# Altium integrated library Workshop_Library.IntLib: 31 symbols
Pins are listed as number, name and electrical type; pins without a type are passive.

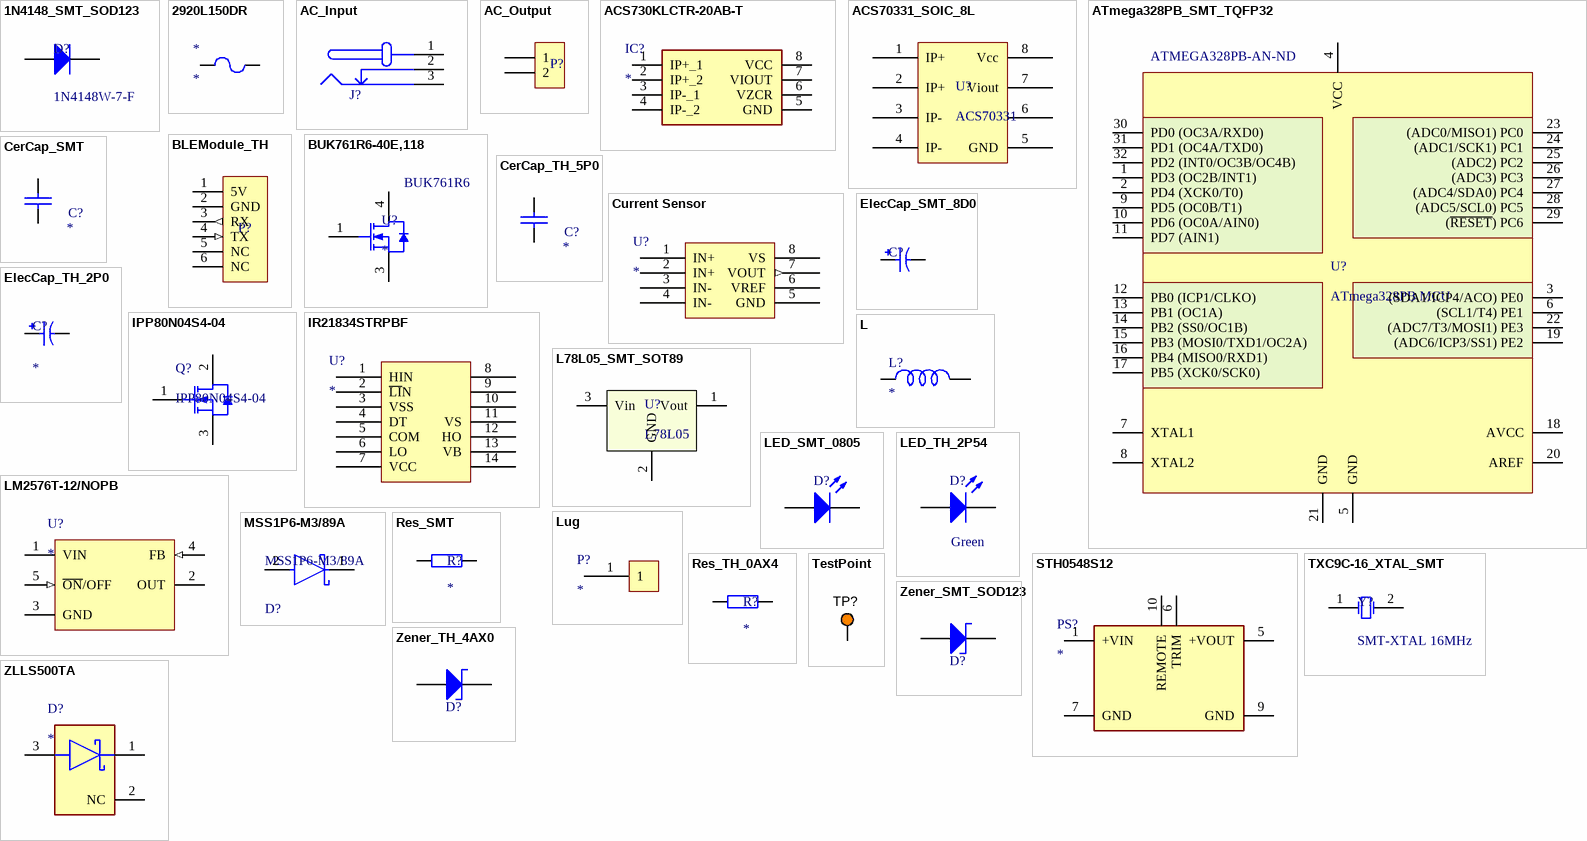
[diagram p0: symbols 1N4148_SMT_SOD123 to ZLLS500TA]

## 1N4148_SMT_SOD123
designator D?, comment 1N4148W-7-F
DIODE GEN PURP 100V 300MA SOD123; Manufacturer: Diodes Incorporated; Manufacturer Part Number: 1N4148W-13-F; Diode Type: Standard; Current - Average Rectified (Io): 150mA; Speed: Small Signal =< 200mA (Io), Any Speed; Capacitance @ Vr, F: 2pF @ 0V, 1MHz; Supplier 1: Digi-Key; RoHS: RoHS Compliant; Category: Discrete Semiconductor Products; Stock 1: 5282; Pricing 1: 1=0.33, 10=0.292, 100=0.1586, 500=0.0976, 1000=0.06656 (NZD); Packaging: Cut Tape (CT); Part Status: Active; Mounting Type: Surface Mount; Package / Case: SOD-123; Supplier Device Package: SOD-123; Operating Temperature - Junction: -65°C ~ 150°C; Base Part Number: 1N4148W; ComponentLink1URL: https://www.diodes.com/assets/Datasheets/ds30086.pdf; ComponentLink1Description: https://www.diodes.com/assets/Datasheets/ds30086.pdf; Supplier Part Number 1: 1N4148W-13FDICT-ND
footprint SOD123 (SOD-123; 2 Leads; Body 2.7 x 1.6 mm, (LxW))
pins: 1 A, 2 K

## 2920L150DR
designator *
PTC Resettable Fuse 1.5A(hold) 3A(trip) 33VDC 40A 1.5W 2s 0.08Ohm SMD Solder Pad 2920 T/R; Manufacturer: Littelfuse; Manufacturer Part Number: 2920L150DR; Operating Supply Voltage: 33V; Resistance: 230mR; Approvals: cULus,TUV; Supplier 1: Digi-Key; RoHS: Yes; Category: PTC Resettable Fuses; Stock 1: 8939; Pricing 1: 1=0.66000, 5=0.64400, 10=0.62400, 50=0.52520, 100=0.43600, 250=0.39640, 500=0.33694 (USD); Case/Package: 2920; Case Code (Metric): 7351; Case Code (Imperial): 2920; Terminal Material: Copper; Min Operating Temperature: -40°C; Max Operating Temperature: 85°C; Package Quantity: 1500; Packaging: Tape and Reel; Max Current Rating: 40A; Voltage Rating: 33V; Current Rating: 40A; Termination: SMD/SMT; Power Dissipation: 1.5W; Working Voltage: 33V; Voltage Rating (DC): 33V; Hold Current: 1.5A; Trip Current: 3A; Time to Trip: 2s; Series: 2920L; Length: 7.98mm; Width: 5.44mm; Height: 1.25mm; REACH SVHC: No SVHC; Lead Free: Lead Free; RoHS Compliant: Yes; ComponentLink1URL: https://datasheet.ciiva.com/30470/0900766b8128f916-30470046.pdf?src-supplier=RSComponents; ComponentLink1Description: https://datasheet.ciiva.com/30470/0900766b8128f916-30470046.pdf?src-supplier=RSComponents; ComponentLink2URL: https://datasheet.ciiva.com/14119/2920l-eng-datasheet-14119786.pdf?src-supplier=Distrelec; ComponentLink2Description: https://datasheet.ciiva.com/14119/2920l-eng-datasheet-14119786.pdf?src-supplier=Distrelec; ComponentLink3URL: https://datasheet.ciiva.com/325/littelfuse-ptc-2920l-325940.pdf?src-supplier=Digi-Key; ComponentLink3Description: https://datasheet.ciiva.com/325/littelfuse-ptc-2920l-325940.pdf?src-supplier=Digi-Key; ComponentLink4URL: https://datasheet.ciiva.com/325/littelfuse-ptc-2920l-325941.pdf?src-supplier=Digi-Key; ComponentLink4Description: https://datasheet.ciiva.com/325/littelfuse-ptc-2920l-325941.pdf?src-supplier=Digi-Key; ComponentLink5URL: https://datasheet.ciiva.com/325/littelfuse-ptc-2920l-325942.pdf?src-supplier=Digi-Key; ComponentLink5Description: https://datasheet.ciiva.com/325/littelfuse-ptc-2920l-325942.pdf?src-supplier=Digi-Key; ComponentLink6URL: https://datasheet.ciiva.com/1273/578244-1273819.pdf?src-supplier=Element14; ComponentLink6Description: https://datasheet.ciiva.com/1273/578244-1273819.pdf?src-supplier=Element14; ComponentLink7URL: https://datasheet.ciiva.com/16305/littelfuse-ptc-2920l-16305114.pdf?src-supplier=Future+Electronics; ComponentLink7Description: https://datasheet.ciiva.com/16305/littelfuse-ptc-2920l-16305114.pdf?src-supplier=Future+Electronics; ComponentLink8URL: https://datasheet.ciiva.com/15226/getdatasheetpartid-158319-15226903.pdf?src-supplier=Verical; ComponentLink8Description: https://datasheet.ciiva.com/15226/getdatasheetpartid-158319-15226903.pdf?src-supplier=Verical; ComponentLink9URL: https://datasheet.ciiva.com/28410/699682-28410950.pdf?src-supplier=Element14; ComponentLink9Description: https://datasheet.ciiva.com/28410/699682-28410950.pdf?src-supplier=Element14
footprint LFUS-2920L150DR_V (SMD, 2-Leads, Body 5.12x7.355mm)
pins: 1, 2

## AC_Input
designator J?, comment DC barrel jack  (value not drawn)
DC barrel jack connection to AC source; Value: socket
footprint AC-Socket
pins: 1 VCC (power) "Common VCC", 2 GND_ALT (power) "Alternate Supply Ground", 3 GND (power) "Common Ground"

## AC_Output
designator P?, comment Dual Banana Plugs  (value not drawn)
Dual banana plugs connection to the AC load; LatestRevisionDate: 17-Jul-2002; LatestRevisionNote: Re-released for DXP Platform.; Publisher: Altium Limited
footprint Dual Banana Plug (Connector; 2 Position)
pins: 1, 2

## ACS730KLCTR-20AB-T
designator IC?
Integrated Circuit; Manufacturer_Name: Allegro Microsystems; Manufacturer_Part_Number: ACS730KLCTR-20AB-T; Datasheet Link: https://www.allegromicro.com/-/media/files/datasheets/acs730-datasheet.ashx; Height: 1.75mm; Arrow Part Number: ACS730KLCTR-20AB-T; Arrow Price/Stock: https://www.arrow.com/en/products/acs730klctr-20ab-t/allegro-microsystems?region=nac
footprint SOIC127P600X175-8N (Footprint not found)
pins: 1 IP+_1, 2 IP+_2, 3 IP-_1, 4 IP-_2, 5 GND, 6 VZCR, 7 VIOUT, 8 VCC

## ACS70331_SOIC_8L
designator U?, comment ACS70331
HIGH SENSITIVITY, GMR-BASED CURR
footprint ACS70331 (8-SOIC model; 8 leads)
pins: 1 IP+, 2 IP+, 3 IP-, 4 IP-, 5 GND, 6, 7 Viout, 8 Vcc

## ATmega328PB_SMT_TQFP32
designator U?, comment ATmega328PB MCU  Supplier Part Number 1: ATMEGA328PB-AN-ND
IC MCU 8BIT 32KB FLASH 32TQFP; Manufacturer: Atmel; Manufacturer Part Number: ATMEGA328PB-AN; Core Processor: AVR; Core Size: 8-Bit; Speed: 20MHz; Connectivity: I²C, SPI, UART/USART; Peripherals: Brown-out Detect/Reset, POR, PWM, WDT; Number of I/O: 27; Program Memory Size: 32KB (16K x 16); EEPROM Size: 1K x 8; RAM Size: 2K x 8; Voltage - Supply (Vcc/Vdd): 1.8 V ~ 5.5 V; Data Converters: A/D 8x10b; Oscillator Type: Internal; Supplier 1: Digi-Key; RoHS: RoHS Compliant; Category: Integrated Circuits (ICs); Stock 1: 366; Pricing 1: 1=2.74, 10=2.448, 25=2.2032, 100=2.0074, 250=1.81152, 500=1.62548, 1000=1.37088 (USD); Packaging: Tray; Part Status: Active; Program Memory Type: FLASH; Operating Temperature: -40°C ~ 105°C (TA); Package / Case: 32-TQFP; Supplier Device Package: 32-TQFP (7x7); ComponentLink1URL: http://www.atmel.com/images/atmel-42397-8-bit-avr-microcontroller-atmega328pb_datasheet.pdf; ComponentLink1Description: http://www.atmel.com/images/atmel-42397-8-bit-avr-microcontroller-atmega328pb_datasheet.pdf
footprint 32 - TQFP
pins: 1 PD3 (OC2B/INT1) , 2 PD4 (XCK0/T0) , 3 (SDA1/ICP4/ACO) PE0, 4 VCC, 5 GND, 6 (SCL1/T4) PE1, 7 XTAL1, 8 XTAL2, 9 PD5 (OC0B/T1) , 10 PD6 (OC0A/AIN0) , 11 PD7 (AIN1) , 12 PB0 (ICP1/CLKO) , 13 PB1 (OC1A) , 14 PB2 (SS0/OC1B) , 15 PB3 (MOSI0/TXD1/OC2A) , 16 PB4 (MISO0/RXD1) , 17 PB5 (XCK0/SCK0), 18 AVCC, 19 (ADC6/ICP3/SS1) PE2, 20 AREF, 21 GND, 22 (ADC7/T3/MOSI1) PE3, 23 (ADC0/MISO1) PC0, 24 (ADC1/SCK1) PC1, 25 (ADC2) PC2, 26 (ADC3) PC3, 27 (ADC4/SDA0) PC4, 28 (ADC5/SCL0) PC5, 29 (~{RESET}) PC6, 30 PD0 (OC3A/RXD0), 31 PD1 (OC4A/TXD0), 32 PD2 (INT0/OC3B/OC4B)

## BLEModule_TH
designator P?, comment BLE Module Header  (value not drawn)
2.54mm pitch 6-pin header for BLE module; LatestRevisionDate: 17-Jul-2002; LatestRevisionNote: Re-released for DXP Platform.; Publisher: Altium Limited
footprint HM10_HDR1X6 (Connector; Header; 6 Position)
pins: 1 5V, 2 GND, 3 RX (out), 4 TX (in), 5 NC, 6 NC

## BUK761R6-40E,118
designator U?
MOSFET Transistor, N Channel, 120 A, 40 V, 0.0013 ohm, 10 V, 3 V RoHS Compliant: Yes; Manufacturer: NXP Semiconductors; Manufacturer Part Number: BUK761R6-40E,118; Input Capacitance: 11.34nF; Rds On Max: 1.6mR; Rise Time: 60ns; Drain to Source Voltage (Vdss): 40V; Continuous Drain Current (ID): 120A; Max Power Dissipation: 357W; Gate to Source Voltage (Vgs): 4V; Turn-On Delay Time: 42ns; Turn-Off Delay Time: 121ns; Fall Time: 83ns; Polarity: N-CHANNEL; Supplier 1: Newark; RoHS: Yes; Category: MOSFETs; Case/Package: D2PAK; Number of Pins: 3; Min Operating Temperature: -55°C; Max Operating Temperature: 175°C; Package Quantity: 1; Packaging: Tape and Reel; Series: TrenchMOS™; Max Dual Supply Voltage: 40V; Power Dissipation: 357W; Drain to Source Breakdown Voltage: 40V; Drain to Source Resistance: 1.6mR; RoHS Compliant: Yes; ComponentLink1URL: https://datasheet.ciiva.com/6376/buk761r6-40e-6376336.pdf?src-supplier=Digi-Key; ComponentLink1Description: https://datasheet.ciiva.com/6376/buk761r6-40e-6376336.pdf?src-supplier=Digi-Key; ComponentLink2URL: https://datasheet.ciiva.com/13044/buk761r6-40e-112654-13044958.pdf?src-supplier=Mouser; ComponentLink2Description: https://datasheet.ciiva.com/13044/buk761r6-40e-112654-13044958.pdf?src-supplier=Mouser; ComponentLink3URL: https://datasheet.ciiva.com/6376/buk761r6-40e-6376342.pdf?src-supplier=Digi-Key; ComponentLink3Description: https://datasheet.ciiva.com/6376/buk761r6-40e-6376342.pdf?src-supplier=Digi-Key
footprint BUK761R6-40E,118 (MOSFET Transistor, N Channel, 120 A, 40 V, 0.0013 ohm, 10 V, 3 V RoHS Compliant: Yes)
pins: 1 G "gate", 3 S "source", 4 D "mounting base; connected to drain"
text: BUK761R6

## CerCap_SMT
designator C?
SMT ceramic capacitor selectable size; Value: *
footprint C0805
footprint C1210
footprint C5750 (C5750 footprint)
pins: 1, 2

## CerCap_TH_5P0
designator C?
TH ceramic capacitor with 5mm pitch; Value: *
footprint CCAP-5P0
pins: 1, 2

## Current Sensor
designator U?
TMCS1100; ComponentLink1Description: New link; ComponentLink1URL: https://www.ti.com/lit/ds/symlink/tmcs1100.pdf?ts=1642385371674&ref_url=https%253A%252F%252Fnz.mouser.com%252F
footprint I-SOIC8
pins: 1 IN+ (power), 2 IN+ (power), 3 IN- (power), 4 IN- (power), 5 GND (power), 6 VREF (power), 7 VOUT (out), 8 VS (power)

## ElecCap_SMT_8D0
designator C?  (value not drawn)
CAP ALUM 22UF 20% 50V SMD (Model: UWX1H220MCL1GB); Manufacturer: Nichicon; Manufacturer Part Number: UWX1V220MCL1GB; Lifetime @ Temp.: 2000 Hrs @ 85°C; Polarization: Polar; Surface Mount Land Size: 0.260" L x 0.260" W (6.60mm x 6.60mm); Capacitance 1: 22 µF; Revision: July-2002: Re-released for DXP Platform.; RoHS: RoHS Compliant; Category: Capacitors; Stock 1: 680; Pricing 1: 1=0.59, 10=0.406, 100=0.2304, 500=0.16268 (NZD); Packaging: Cut Tape (CT); Part Status: Active; Tolerance: ±20%; ESR (Equivalent Series Resistance): -; Operating Temperature: -40°C ~ 85°C; Ratings: -; Applications: General Purpose; Lead Spacing: -; Size / Dimension: 0.248" Dia (6.30mm); Height - Seated (Max): 0.213" (5.40mm); Mounting Type: Surface Mount; Package / Case: Radial, Can - SMD; ComponentLink1URL: http://nichicon-us.com/english/products/pdfs/e-uwx.pdf; ComponentLink1Description: http://nichicon-us.com/english/products/pdfs/e-uwx.pdf; Supplier 1: Digi-Key; Supplier Part Number 1: 493-2136-1-ND; Value: *
footprint CAP POL 8x5.4mm SMT
pins: 1, 2

## ElecCap_TH_2P0
designator C?
Electrolytic capacitor with radial package, 2mm pitch and 5.2mm diameter; Published: 8-Jun-2000; LatestRevisionDate: 17-Jul-2002; LatestRevisionNote: Re-released for DXP Platform.; PackageReference: POLAR0.8; Publisher: Altium Limited; PackageDescription: Polarized Capacitor; 2 Leads; Value: *
footprint CAP-RAD-2.5mm Pitch (Cap 6.3 X 11.2)
pins: 1, 2
1 alternate drawing of the same symbol

## IPP80N04S4-04
designator Q?
OptiMOS-T2 Power-Transistor, 40 V VDS, 80 A ID, PG-TO220-3-1, Tube, Green; Manufacturer: Infineon; VDS (max): 40 V; RDS (on) (max) (@10V): 4.6 mOhm; Ptot (max): 71 W; IDpuls (max): 320 A; Green: TRUE; VGS(th) (max): 4 V; QG: 33 nC; RthJC (max): 2.1 K/W; ID (max): 80 A; VGS(th) (min): 2 V; PartNumber: IPP80N04S4-04; ComponentLink2Description: Datasheet; DatasheetVersion: Rev. 1.0; Halogen-free: TRUE; ComponentLink3Description: Package Specification; PackageDescription: 3-Pin Plastic (Green) Transistor Single Outline Package, 10 x 9.25 mm Body, 2.54 mm Pitch; ComponentLink3URL: http://www.infineon.com/dgdl/BTS117_DS_14.pdf?folderId=db3a30431400ef68011421b54e2e0564&fileId=db3a30433a747525013abff8302d549c&location=en.Products.Automotive_ICs.Smart_High-_and_Low-Side_Switches.HITFET___TEMPFET__-_Smart_Low-Side_Switches.DATASHEET.BTS1; PackageReference: PG-TO220-3-1; PackageVersion: Jul-12; Packing: Tube; ComponentLink1Description: Manufacturer URL; ComponentLink2URL: http://www.infineon.com/dgdl/IPP_B_I80N04S4-04_DS_1_0.pdf?folderId=db3a304412b407950112b42b75b74520&fileId=db3a304328c6bd5c01291c71d4085dfa&location=en.Products.Automotive_ICs.Automotive_MOSFETs.Single__N-Channel_40V_MOSFETs.DATASHEET.IPP_B_I80N04S4-04_DS_; Mounting Technology: Through Hole; ComponentLink1URL: http://www.infineon.com/; Technology: OptiMOS-T2
footprint INF-PG-TO220-3-1 (FM, 3-Leads, Body 10x4.4mm, Pitch 2.54mm)
pins: 1 GATE, 2 DRAIN, 3 SOURCE

## IR21834STRPBF
designator U?
600 V half-bridge gate driver IC with programmable deadtime, SOIC 14N, RoHS; Manufacturer: International Rectifier; Manufacturer Part Number: IR21834STRPBF; Number of Outputs: 2; Max Supply Voltage: 20V; Min Supply Voltage: 10V; Max Power Dissipation: 1W; Turn-On Delay Time: 35ns; Max Supply Current: 1.6mA; Rise Time: 60ns; Output Current: 1.9A; Nominal Supply Current: 1mA; Propagation Delay: 330ns; Max Output Current: 2.3A; Supplier 1: Newark; RoHS: Yes; Category: Gate Drivers; Mount: Surface Mount; Case/Package: SOIC; Number of Pins: 14; Min Operating Temperature: -40°C; Max Operating Temperature: 125°C; Packaging: Tape and Reel; Package Quantity: 1; Series: -; Output Voltage: 20V; Number of Drivers: 2; Fall Time: 35ns; Turn-Off Delay Time: 35ns; Power Dissipation: 1W; Length: 8.74mm; Width: 3.99mm; Height: 1.5mm; REACH SVHC: No SVHC; RoHS Compliant: Yes; ComponentLink1URL: https://datasheet.ciiva.com/26878/ir21834strpbf-26878870.pdf?src-supplier=IIIC; ComponentLink1Description: https://datasheet.ciiva.com/26878/ir21834strpbf-26878870.pdf?src-supplier=IIIC; ComponentLink2URL: https://datasheet.ciiva.com/8068/ir2183-8068250.pdf?src-supplier=Element14; ComponentLink2Description: https://datasheet.ciiva.com/8068/ir2183-8068250.pdf?src-supplier=Element14; ComponentLink3URL: https://datasheet.ciiva.com/1950/ir2183-1950222.pdf?src-supplier=Digi-Key; ComponentLink3Description: https://datasheet.ciiva.com/1950/ir2183-1950222.pdf?src-supplier=Digi-Key; ComponentLink4URL: https://datasheet.ciiva.com/1950/ir2183-1950223.pdf?src-supplier=Digi-Key; ComponentLink4Description: https://datasheet.ciiva.com/1950/ir2183-1950223.pdf?src-supplier=Digi-Key; ComponentLink5URL: https://datasheet.ciiva.com/1950/ir2183-1950221.pdf?src-supplier=Digi-Key; ComponentLink5Description: https://datasheet.ciiva.com/1950/ir2183-1950221.pdf?src-supplier=Digi-Key; ComponentLink6URL: https://datasheet.ciiva.com/16287/ir2183-16287545.pdf?src-supplier=Future+Electronics; ComponentLink6Description: https://datasheet.ciiva.com/16287/ir2183-16287545.pdf?src-supplier=Future+Electronics
footprint SOIC127P600X175-14N (SOIC, 14-Leads, Body 8.65x3.90mm, Pitch 1.27mm, IPC Medium Density)
pins: 1 HIN, 2 ~{LI}N, 3 VSS, 4 DT, 5 COM, 6 LO, 7 VCC, 8, 9, 10, 11 VS, 12 HO, 13 VB, 14

## L
designator L?
Value: *
pins: 1, 2

## L78L05_SMT_SOT89
designator U?, comment L78L05
LDO Voltage Regulator 5V; ComponentLink1URL: http://www.st.com/content/ccc/resource/technical/document/datasheet/99/3b/7d/91/91/51/4b/be/CD00000544.pdf/files/CD00000544.pdf/jcr:content/translations/en.CD00000544.pdf; ComponentLink1Description: http://www.st.com/content/ccc/resource/technical/document/datasheet/99/3b/7d/91/91/51/4b/be/CD00000544.pdf/files/CD00000544.pdf/jcr:content/translations/en.CD00000544.pdf; Supplier 1: Digi-Key; Supplier Part Number 1: 497-1181-1-ND
footprint SOT-89 (SOT89, 3-Leads, Body 4.5x2.4 mm, Pitch 1.5mm, Lead Span 4.1mm, IPC Low Density)
pins: 1 Vout, 2 GND, 3 Vin

## LED_SMT_0805
designator D?, comment LTST-C170KGKT  (value not drawn)
SMT LED 0805 size; Manufacturer: Lite-On Inc.; Color: Green; Lens Color: Colorless; Lens Transparency: Clear; Millicandela Rating: 35mcd; Lens Style/Size: Rectangle with Flat Top, 1.40mm x 1.25mm; Voltage - Forward (Vf) (Typ): 2V; Current - Test: 20mA; Viewing Angle: 130°; Wavelength - Dominant: 571nm; Wavelength - Peak: 574nm; Supplier 1: Digi-Key; Manufacturer Part Number: LTST-C170KGKT; RoHS: RoHS Compliant; Category: Optoelectronics; Stock 1: 503069; Pricing 1: 1=0.62, 10=0.459, 25=0.338, 100=0.2415, 250=0.16416, 500=0.14486, 1000=0.11347 (NZD); Packaging: Cut Tape (CT); Part Status: Active; Mounting Type: Surface Mount; Features: -; Package / Case: 0805 (2012 Metric); Size / Dimension: 2.00mm L x 1.25mm W; Height (Max): 1.10mm; ComponentLink1URL: http://optoelectronics.liteon.com/upload/download/DS22-2000-073/LTST-C170KGKT.pdf; ComponentLink1Description: http://optoelectronics.liteon.com/upload/download/DS22-2000-073/LTST-C170KGKT.pdf; Supplier Part Number 1: 160-1414-1-ND
footprint 0805 LED (RED AS AlGaAs SMD LED, Body; 2mm x 1.25 mm (LxW))
pins: 1 A, 2 K

## LED_TH_2P54
designator D?, comment Green
Typical throughole GaAs LED with 2.54mm pitch; Manufacturer: Generic Components; Class I: Optoelectronic; Published: 8-Jun-2000; Revision: July-2002: Re-released for DXP Platform.; Publisher: Altium Limited; Class II: LED; Value: Green
footprint LED
pins: 1 A, 2 K

## LM2576T-12/NOPB
designator U?
SIMPLE SWITCHER® 40V, 3A Low Component Count Step-Down Regulator 5-TO-220 -40 to 125; Manufacturer: TI National Semiconductor; Manufacturer Part Number: LM2576T-12/NOPB; Number of Outputs: 1; Output Voltage: 12V; Min Input Voltage: 4V; Switching Frequency: 58kHz; Output Type: Fixed; Efficiency: 88%; Quiescent Current: 5mA; Supplier 1: Arrow Electronics; RoHS: Yes; Category: Voltage Regulators - Switching; Stock 1: 9; Pricing 1: 1=1.95300, 10=1.93400, 25=1.91400, 100=1.70700, 250=1.69000, 500=1.67300, 1000=1.65700 (USD); Mount: Through Hole; Case/Package: TO-220; Number of Pins: 5; Weight: 0.01lb; Contact Plating: Tin,Matte; Min Operating Temperature: -40°C; Max Operating Temperature: 125°C; Output Current: 3A; Max Input Voltage: 40V; Packaging: Rail/Tube; Package Quantity: 45; Max Output Current: 3A; Series: LM2576; Nominal Output Voltage: 12V; Operating Supply Voltage: 40V; Length: 10.16mm; Width: 4.7mm; Height: 8.89mm; Radiation Hardening: No; REACH SVHC: No SVHC; Lead Free: Lead Free; RoHS Compliant: Yes; ComponentLink1URL: https://datasheet.ciiva.com/15112/getdatasheetpartid-82368-15112782.pdf?src-supplier=Verical; ComponentLink1Description: https://datasheet.ciiva.com/15112/getdatasheetpartid-82368-15112782.pdf?src-supplier=Verical; ComponentLink2URL: https://datasheet.ciiva.com/27050/836123-27050280.pdf?src-supplier=Jameco; ComponentLink2Description: https://datasheet.ciiva.com/27050/836123-27050280.pdf?src-supplier=Jameco; ComponentLink3URL: https://datasheet.ciiva.com/41457/001013743-da-01-en-ic-reg-buck-lm2576t-12-nopb-to-220-5-tid-41457618.pdf?src-supplier=Conrad; ComponentLink3Description: https://datasheet.ciiva.com/41457/001013743-da-01-en-ic-reg-buck-lm2576t-12-nopb-to-220-5-tid-41457618.pdf?src-supplier=Conrad; ComponentLink4URL: https://datasheet.ciiva.com/3219/lm2576-3219931.pdf?src-supplier=Avnet; ComponentLink4Description: https://datasheet.ciiva.com/3219/lm2576-3219931.pdf?src-supplier=Avnet; ComponentLink5URL: https://datasheet.ciiva.com/6596/lm2576hv-6596637.pdf?src-supplier=Digi-Key; ComponentLink5Description: https://datasheet.ciiva.com/6596/lm2576hv-6596637.pdf?src-supplier=Digi-Key; ComponentLink6URL: https://datasheet.ciiva.com/14150/jflm2576x-xx-e-14150694.pdf?src-supplier=Distrelec; ComponentLink6Description: https://datasheet.ciiva.com/14150/jflm2576x-xx-e-14150694.pdf?src-supplier=Distrelec; ComponentLink7URL: https://datasheet.ciiva.com/16466/lm2576-16466314.pdf?src-supplier=Avnet+Asia; ComponentLink7Description: https://datasheet.ciiva.com/16466/lm2576-16466314.pdf?src-supplier=Avnet+Asia
footprint KC0005A (FM, 5-Leads, Body 10.16x8.46mm, Pitch 1.7mm)
pins: 1 VIN (power), 2 OUT (power), 3 GND (power), 4 FB (in), 5 ~{ON}/OFF (in)

## Lug
designator P?
footprint M3 Lug
footprint M4 Lug
pins: 1

## MSS1P6-M3/89A
designator D?
DIODE SCHOTTKY 60V 1A MICROSMP; Manufacturer: Vishay; Max Junction Temp: +150°C; Peak Reverse Current: 20uA; Max Surge Forward Current: 25A; Capacitance: 40pF; Value: 40pF; Temperature Range Low: -55°C; Automotive: No; Manufacturer Part Number: MSS1P6-M3/89A; ComponentLink2Description: Datasheet; RoHS: TRUE; Temperature Range High: +150°C; Forward Current: 1A; Height: 0.73mm; Max Repetitive Reverse Voltage: 60V; Device Class L2: Diodes; Octopart: https://octopart.com/mss1p6-m3%2F89a-vishay-42763284; Digikey Description: DIODE SCHOTTKY 60V 1A MICROSMP; Device Class L1: Discrete Semiconductors; Package: 96591; ComponentLink2URL: http://www.vishay.com/docs/89018/mss1p6.pdf; Category: Diode; Temperature: -55°C to +150°C; Footprint Url: http://www.vishay.com/docs/96591/microsmp_do-219ad_fredpt.pdf; Mouser Description: Schottky Diodes & Rectifiers 1.0 Amp 60 Volt; Device Class L3: Schottky Diodes; Lead Free: Yes
footprint FP-96591-MFG
pins: 1 C, 2 A

## Res_SMT
designator R?
Resistor 0805 or 1206; Published: 8-Jun-2000; LatestRevisionDate: 17-Jul-2002; LatestRevisionNote: Re-released for DXP Platform.; PackageReference: AXIAL-0.4; Publisher: Altium Limited; Value: *; ComponentLink1Description: https://nz.mouser.com/datasheet/2/315/AOA0000C304-1149620.pdf
footprint R0805
footprint R1206 (Chip Resistor, 2-Leads, Body 3.20x1.60mm, IPC Low Density)
pins: 1, 2

## Res_TH_0AX4
designator R?
Through hole resistor; Published: 8-Jun-2000; LatestRevisionDate: 17-Jul-2002; LatestRevisionNote: Re-released for DXP Platform.; PackageReference: AXIAL-0.4; Publisher: Altium Limited; Value: *; ComponentLink1Description: http://www.royalohm.com/pdf/product2017/PrecisionMetalMF.pdf
footprint AXIAL-0.4
pins: 1, 2

## STH0548S12
designator PS?
Power Supply; Manufacturer_Name: XP POWER; Manufacturer_Part_Number: STH0548S15; Datasheet Link: https://4donline.ihs.com/images/VipMasterIC/IC/XPPO/XPPO-S-A0009456324/XPPO-S-A0009456324-1.pdf?hkey=EF798316E3902B6ED9A73243A3159BB0; Height: 5.5mm
footprint STH0548S12
pins: 1 +VIN, 5 +VOUT, 6 TRIM, 7 GND, 9 GND, 10 REMOTE

## TestPoint
designator TP?, comment 5003  (value not drawn)
Test Point, Orange, 1-Pin THD, RoHS; Peak Reverse Current: 600 uA; Forward Current: 3 A; Max Surge Current: 80 A; Forward Voltage: 1.08 V; Max Operating Temperature: 150 degC; PackageReference: 5003; Pins: 2; ComponentLink2URL: http://keyelco.com/userAssets/file/M65p56.pdf; PackageDescription: 1-Pin Through Hole Device, Dia 2.54 mm; Weight: 0.01 lb; Diameter: 5.3 mm; Mount: Through Hole; Package Quantity: 500; Packaging: Bulk; Min Operating Temperature: -65 degC; ComponentLink1Description: Manufacturer URL; Height: 0.25 inch; ComponentLink1URL: http://www.keyelco.com/; ComponentLink2Description: Datasheet; Width: 0.25 inch; REACH SVHC: No SVHC; RoHSCompliant: true; Radiation Hardening: No; Length: 9.5 mm; DatasheetVersion: Jun-15
footprint TP_TH (Test Point, Through Hole, Dia 2.54mm)
pins: 1

## TXC9C-16_XTAL_SMT
designator Y?, comment SMT-XTAL 16MHz
9C-16.000MAAJ-T crystal 16.0000MHZ 18PF SMD; Manufacturer: TXC CORPORATION; Frequency Stability: ±30ppm; Operating Mode: Fundamental; Supplier 1: Digi-Key; Manufacturer Part Number: 9C-16.000MAAJ-T; RoHS: RoHS Compliant; Category: Crystals, Oscillators, Resonators; Stock 1: 11514; Pricing 1: 1=0.75, 10=0.628, 50=0.5656, 100=0.5026, 500=0.47744 (NZD); Packaging: Cut Tape (CT); Part Status: Active; Type: MHz Crystal; Frequency Tolerance: ±30ppm; Load Capacitance: 18pF; Operating Temperature: -20°C ~ 70°C; Ratings: -; Mounting Type: Surface Mount; Package / Case: HC-49/US; Size / Dimension: 0.449" L x 0.189" W (11.40mm x 4.80mm); Height - Seated (Max): 0.161" (4.10mm); ComponentLink1URL: http://www.txccorp.com/download/products/quartz_crystals/2015TXC_9C_32.pdf; ComponentLink1Description: http://www.txccorp.com/download/products/quartz_crystals/2015TXC_9C_32.pdf; Supplier Part Number 1: 887-1059-1-ND
footprint HC49-US (20Mhz Crystal)
pins: 1 OSC1, 2 OSC2

## Zener_SMT_SOD123
designator D?, comment BZT52H-B4V7  (value not drawn)
SMT zener diode with SOD123 package; Manufacturer: Nexperia USA Inc.; Manufacturer Part Number: BZT52H-B4V7,115; Tolerance: ±2%; Supplier 1: Digi-Key; RoHS: RoHS Compliant; Category: Discrete Semiconductor Products; Stock 1: 0; Pricing 1: 1=0.51, 10=0.408, 100=0.2164, 500=0.14232, 1000=0.09678 (NZD); Packaging: Cut Tape (CT); Part Status: Active; Operating Temperature: -65°C ~ 150°C (TA); Mounting Type: Surface Mount; Package / Case: SOD-123F; Supplier Device Package: SOD-123F; ComponentLink1URL: https://assets.nexperia.com/documents/data-sheet/BZT52H_SER.pdf; ComponentLink1Description: https://assets.nexperia.com/documents/data-sheet/BZT52H_SER.pdf; Supplier Part Number 1: 1727-1611-1-ND
footprint SOD123 (SOD-123; 2 Leads; Body 2.7 x 1.6 mm, (LxW))
pins: 1 A, 2 K

## Zener_TH_4AX0
designator D?, comment BZX79-CXVX  (value not drawn)
Axial zener diode BZX79 series; Manufacturer: Nexperia USA Inc.; Manufacturer Part Number: BZX79-C4V7,143; Tolerance: ±5%; Supplier 1: Digi-Key; RoHS: RoHS Compliant; Category: Discrete Semiconductor Products; Stock 1: 8933; Pricing 1: 1=0.23, 10=0.206, 100=0.1123, 500=0.06912, 1000=0.04714 (NZD); Packaging: Cut Tape (CT); Part Status: Active; Operating Temperature: -65°C ~ 200°C; Mounting Type: Through Hole; Package / Case: DO-204AH, DO-35, Axial; Supplier Device Package: DO-35; ComponentLink1URL: https://assets.nexperia.com/documents/data-sheet/BZX79.pdf; ComponentLink1Description: https://assets.nexperia.com/documents/data-sheet/BZX79.pdf; Supplier Part Number 1: 1727-1864-1-ND
footprint AXIAL-Zener-0.4
pins: 1 A, 2 K

## ZLLS500TA
designator D?
ZLLS500 Series 0.7 A 40 V 10 uA High Current Low Leakage Schottky Diode - SOT-23; Manufacturer: Diodes Zetex; Manufacturer Part Number: ZLLS500TA; Forward Current: 700mA; Reverse Recovery Time: 3ns; Max Repetitive Reverse Voltage (Vrrm): 40V; Max Forward Surge Current (Ifsm): 3.2A; Peak Non-Repetitive Surge Current: 13A; Element Configuration: Single; Forward Voltage: 800mV; Max Reverse Current: 10uA; Power Dissipation: 500mW; Polarity: Standard; Capacitance: 16pF; Supplier 1: Digi-Key; RoHS: Yes; Category: Schottky Diodes; Stock 1: 27455; Pricing 1: 1=0.56000, 10=0.47600, 100=0.35570, 500=0.27952, 1000=0.21598 (USD); Mount: Surface Mount; Case/Package: SOT-23; Number of Pins: 3; Weight: 0.000282oz; Min Operating Temperature: -55°C; Max Operating Temperature: 150°C; Package Quantity: 3000; Packaging: Tape and Reel; Average Rectified Current: 700mA; Max Reverse Voltage (DC): 40V; Series: -; Termination: SMD/SMT; Voltage Rating (DC): 40V; Current Rating: 700mA; Output Current: 700mA; Length: 3.05mm; Width: 1.4mm; Height: 1mm; Radiation Hardening: No; Lead Free: Lead Free; RoHS Compliant: Yes; ComponentLink1URL: https://datasheet.ciiva.com/914/zlls500-914480.pdf?src-supplier=Digi-Key; ComponentLink1Description: https://datasheet.ciiva.com/914/zlls500-914480.pdf?src-supplier=Digi-Key; ComponentLink2URL: https://datasheet.ciiva.com/4715/zlls500-4715543.pdf?src-supplier=Mouser; ComponentLink2Description: https://datasheet.ciiva.com/4715/zlls500-4715543.pdf?src-supplier=Mouser; ComponentLink3URL: https://datasheet.ciiva.com/8301/zlls500-8301566.pdf?src-supplier=Avnet; ComponentLink3Description: https://datasheet.ciiva.com/8301/zlls500-8301566.pdf?src-supplier=Avnet
footprint FP-SOT23-MFG
pins: 1 C, 2 NC, 3 A